# EAGLE library part TMS320F2869_MODULE (library DSP)
PM Board DSP Module
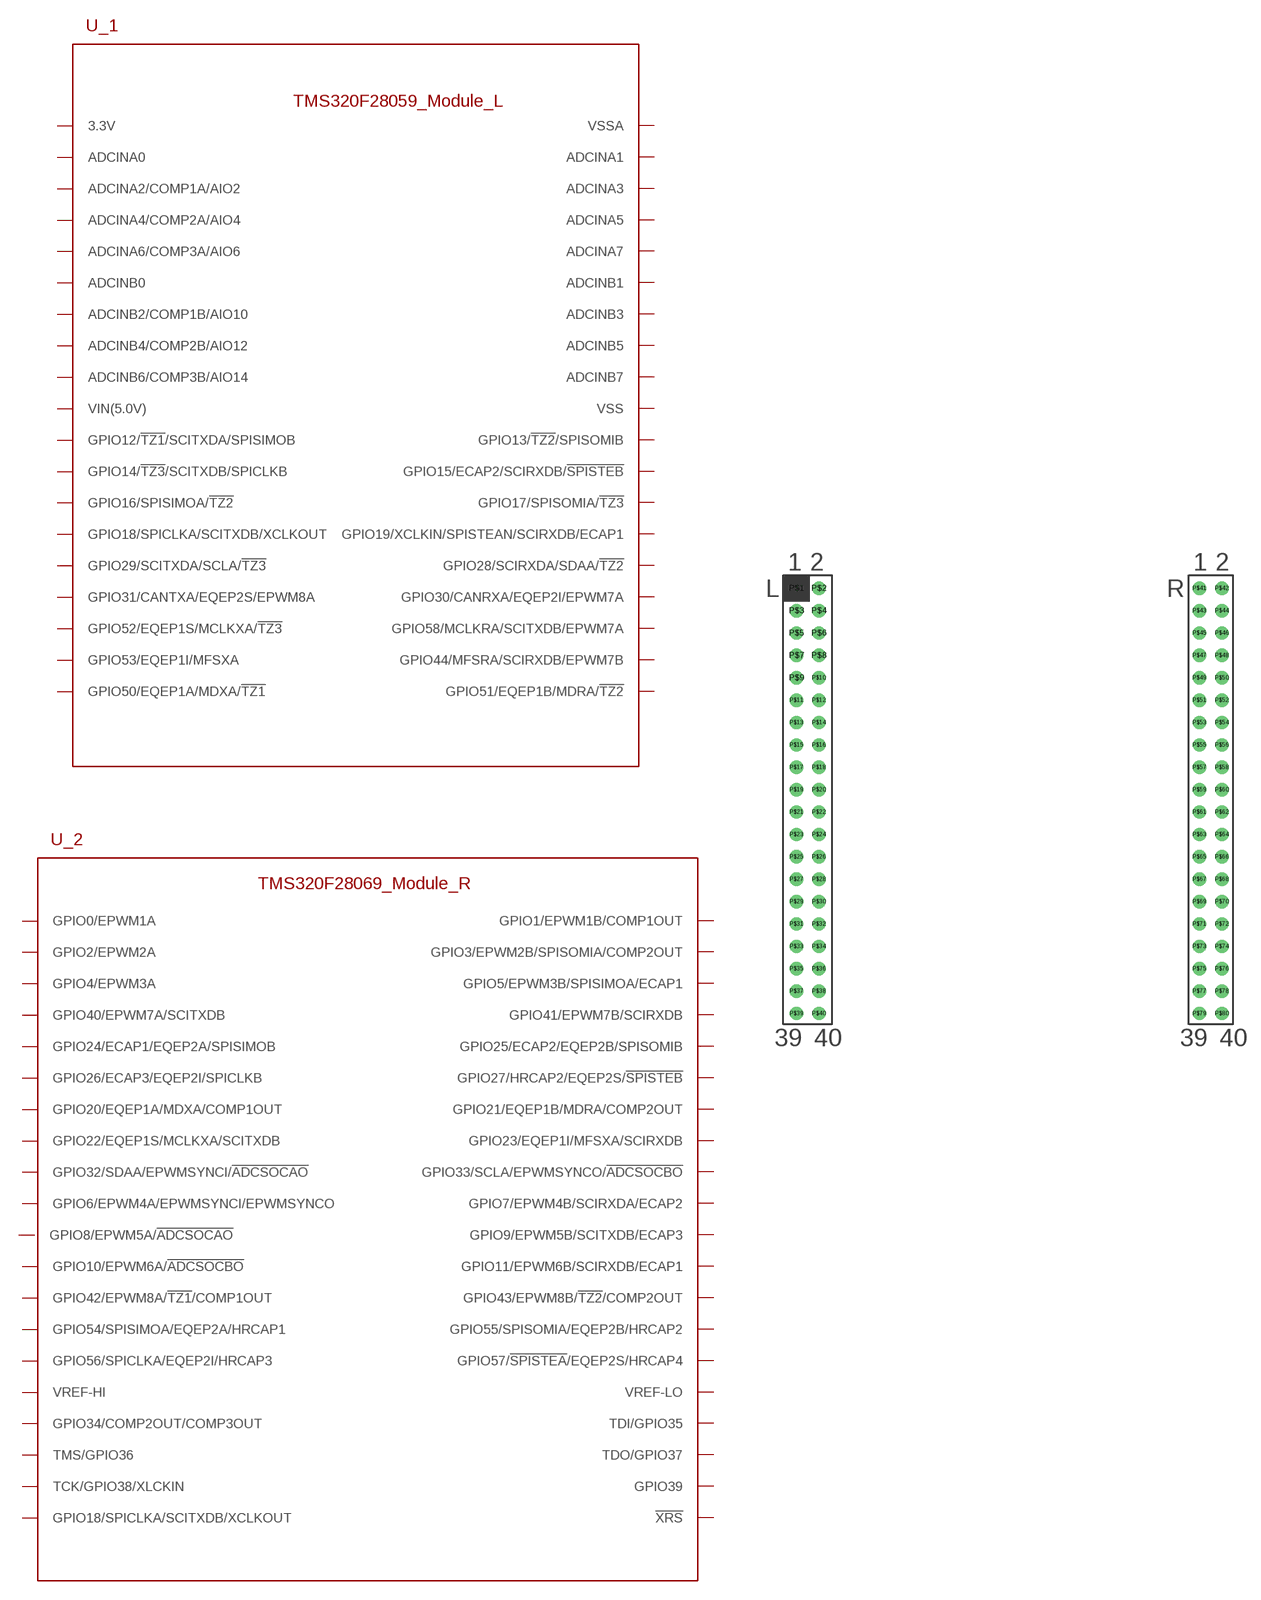
[diagram p2: symbol with the pads of TMS320F28069_DEV; footprint TMS320F28069_DEV]

Designator prefix U; gates _1=TMS320F28069_DEV_L _2=TMS320F28069_DEV_R

## TMS320F2869_MODULE80PIN  [TMS320F28069_DEV]
P$1  _1:3.3V  nc
P$2  _1:VSSA
P$3  _1:ADCINA0
P$4  _1:ADCINA1
P$5  _1:ADCINA2/COMP1A/AIO2
P$6  _1:ADCINA3
P$7  _1:ADCINA4/COMP2A/AIO4
P$8  _1:ADCINA5
P$9  _1:ADCINA6/COMP3A/AIO6
P$10  _1:ADCINA7
P$11  _1:ADCINB0
P$12  _1:ADCINB1
P$13  _1:ADCINB2/COMP1B/AIO10
P$14  _1:ADCINB3
P$15  _1:ADCINB4/COMP2B/AIO12
P$16  _1:ADCINB5
P$17  _1:ADCINB6/COMP3B/AIO14
P$18  _1:ADCINB7
P$19  _1:VIN(5.0V)
P$20  _1:VSS
P$21  _1:GPIO12/!TZ1!/SCITXDA/SPISIMOB
P$22  _1:GPIO13/!TZ2!/SPISOMIB
P$23  _1:GPIO14/!TZ3!/SCITXDB/SPICLKB
P$24  _1:GPIO15/ECAP2/SCIRXDB/!SPISTEB!
P$25  _1:GPIO16/SPISIMOA/!TZ2!
P$26  _1:GPIO17/SPISOMIA/!TZ3!
P$27  _1:GPIO18/SPICLKA/SCITXDB/XCLKOUT
P$28  _1:GPIO19/XCLKIN/SPISTEAN/SCIRXDB/ECAP1
P$29  _1:GPIO29/SCITXDA/SCLA/!TZ3!
P$30  _1:GPIO28/SCIRXDA/SDAA/!TZ2!
P$31  _1:GPIO31/CANTXA/EQEP2S/EPWM8A
P$32  _1:GPIO30/CANRXA/EQEP2I/EPWM7A
P$33  _1:GPIO52/EQEP1S/MCLKXA/!TZ3!
P$34  _1:GPIO58/MCLKRA/SCITXDB/EPWM7A
P$35  _1:GPIO53/EQEP1I/MFSXA
P$36  _1:GPIO44/MFSRA/SCIRXDB/EPWM7B
P$37  _1:GPIO50/EQEP1A/MDXA/!TZ1!
P$38  _1:GPIO51/EQEP1B/MDRA/!TZ2!
P$39  _1:GPIO58/MCLKRA/SCITXDB/EPWM7A
P$40  _1:GPIO44/MFSRA/SCIRXDB/EPWM7B
P$41  _2:GPIO0/EPWM1A
P$42  _2:GPIO1/EPWM1B/COMP1OUT
P$43  _2:GPIO2/EPWM2A
P$44  _2:GPIO3/EPWM2B/SPISOMIA/COMP2OUT
P$45  _2:GPIO4/EPWM3A
P$46  _2:GPIO5/EPWM3B/SPISIMOA/ECAP1
P$47  _2:GPIO40/EPWM7A/SCITXDB
P$48  _2:GPIO41/EPWM7B/SCIRXDB
P$49  _2:GPIO24/ECAP1/EQEP2A/SPISIMOB
P$50  _2:GPIO25/ECAP2/EQEP2B/SPISOMIB
P$51  _2:GPIO26/ECAP3/EQEP2I/SPICLKB
P$52  _2:GPIO27/HRCAP2/EQEP2S/!SPISTEB!
P$53  _2:GPIO20/EQEP1A/MDXA/COMP1OUT
P$54  _2:GPIO21/EQEP1B/MDRA/COMP2OUT
P$55  _2:GPIO22/EQEP1S/MCLKXA/SCITXDB
P$56  _2:GPIO23/EQEP1I/MFSXA/SCIRXDB
P$57  _2:GPIO32/SDAA/EPWMSYNCI/!ADCSOCAO!
P$58  _2:GPIO33/SCLA/EPWMSYNCO/!ADCSOCBO!
P$59  _2:GPIO6/EPWM4A/EPWMSYNCI/EPWMSYNCO
P$60  _2:GPIO7/EPWM4B/SCIRXDA/ECAP2
P$61  _2:GPIO8/EPWM5A/!ADCSOCAO
P$62  _2:GPIO9/EPWM5B/SCITXDB/ECAP3
P$63  _2:GPIO10/EPWM6A/!ADCSOCBO!
P$64  _2:GPIO11/EPWM6B/SCIRXDB/ECAP1
P$65  _2:GPIO42/EPWM8A/!TZ1!/COMP1OUT
P$66  _2:GPIO43/EPWM8B/!TZ2!/COMP2OUT
P$67  _2:GPIO54/SPISIMOA/EQEP2A/HRCAP1
P$68  _2:GPIO55/SPISOMIA/EQEP2B/HRCAP2
P$69  _2:GPIO56/SPICLKA/EQEP2I/HRCAP3
P$70  _2:GPIO57/!SPISTEA!/EQEP2S/HRCAP4
P$71  _2:VREF-HI
P$72  _2:VREF-LO
P$73  _2:GPIO34/COMP2OUT/COMP3OUT
P$74  _2:TDI/GPIO35
P$75  _2:TMS/GPIO36
P$76  _2:TDO/GPIO37
P$77  _2:TCK/GPIO38/XLCKIN
P$78  _2:GPIO39
P$79  _2:GPIO18/SPICLKA/SCITXDB/XCLKOUT
P$80  _2:!XRS!

## Footprint TMS320F28069_DEV (pad centres in mm)
drill 1 square: P$1 0,0
drill 1: P$2 2.54,0; P$3 0,-2.54; P$4 2.54,-2.54; P$5 0,-5.08; P$6 2.54,-5.08; P$7 0,-7.62; P$8 2.54,-7.62; P$9 0,-10.16; P$10 2.54,-10.16; P$11 0,-12.7; P$12 2.54,-12.7; P$13 0,-15.24; P$14 2.54,-15.24; P$15 0,-17.78; P$16 2.54,-17.78; P$17 0,-20.32; P$18 2.54,-20.32; P$19 0,-22.86; P$20 2.54,-22.86; P$21 0,-25.4; P$22 2.54,-25.4; P$23 0,-27.94; P$24 2.54,-27.94; P$25 0,-30.48; P$26 2.54,-30.48; P$27 0,-33.02; P$28 2.54,-33.02; P$29 0,-35.56; P$30 2.54,-35.56; P$31 0,-38.1; P$32 2.54,-38.1; P$33 0,-40.64; P$34 2.54,-40.64; P$35 0,-43.18; P$36 2.54,-43.18; P$37 0,-45.72; P$38 2.54,-45.72; P$39 0,-48.26; P$40 2.54,-48.26; P$41 45.72,0; P$42 48.26,0; P$43 45.72,-2.54; P$44 48.26,-2.54; P$45 45.72,-5.08; P$46 48.26,-5.08; P$47 45.72,-7.62; P$48 48.26,-7.62; P$49 45.72,-10.16; P$50 48.26,-10.16; P$51 45.72,-12.7; P$52 48.26,-12.7; P$53 45.72,-15.24; P$54 48.26,-15.24; P$55 45.72,-17.78; P$56 48.26,-17.78; P$57 45.72,-20.32; P$58 48.26,-20.32; P$59 45.72,-22.86; P$60 48.26,-22.86; P$61 45.72,-25.4; P$62 48.26,-25.4; P$63 45.72,-27.94; P$64 48.26,-27.94; P$65 45.72,-30.48; P$66 48.26,-30.48; P$67 45.72,-33.02; P$68 48.26,-33.02; P$69 45.72,-35.56; P$70 48.26,-35.56; P$71 45.72,-38.1; P$72 48.26,-38.1; P$73 45.72,-40.64; P$74 48.26,-40.64; P$75 45.72,-43.18; P$76 48.26,-43.18; P$77 45.72,-45.72; P$78 48.26,-45.72; P$79 45.72,-48.26; P$80 48.26,-48.26